# Altium schematic symbol library AD9746.SchLib: 1 symbol
Pins are listed as number, name and electrical type; pins without a type are passive.

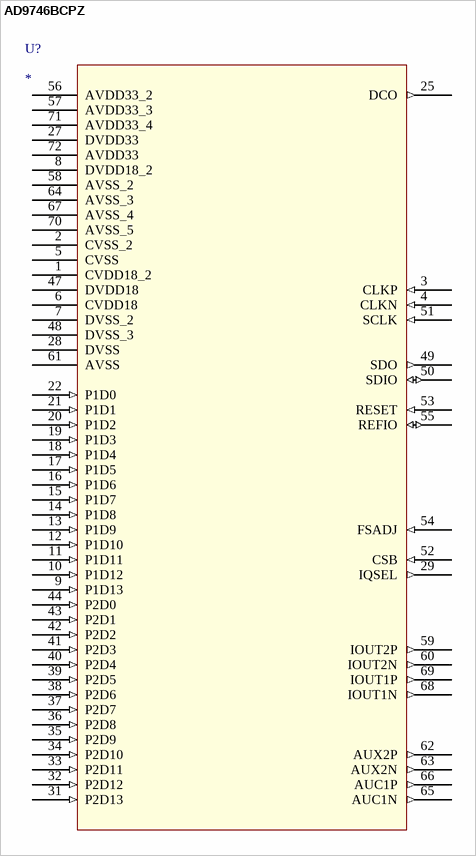
[diagram p0: symbol AD9746BCPZ]

## AD9746BCPZ
designator U?
Dual 14-Bit  250 MSPS Digital-to-Analog Converter; ComponentLink1URL: http://www.analog.com/static/imported-files/data_sheets/AD9741_9743_9745_9746_9747.pdf; ComponentLink1Description: Datasheet
footprint CP_72_1
pins: 1 CVDD18_2 (power) "Clock Supply Voltage (1.8 V)", 2 CVSS_2 (power) "Clock Supply Common (0 V)", 3 CLKP (in) "Differential DAC Clock Input", 4 CLKN (in) "Complementary Differential DAC Clock Input", 5 CVSS (power) "Clock Supply Common (0 V)", 6 CVDD18 (power) "Clock Supply Voltage (1.8 V)", 7 DVSS_2 (power) "Digital Supply Common (0 V)", 8 DVDD18_2 (power) "Digital Core Supply Voltage (1.8 V)", 9 P1D13 (in) "Port 1 Data Bit Inputs", 10 P1D12 (in) "Port 1 Data Bit Inputs", 11 P1D11 (in) "Port 1 Data Bit Inputs", 12 P1D10 (in) "Port 1 Data Bit Inputs", 13 P1D9 (in) "Port 1 Data Bit Inputs", 14 P1D8 (in) "Port 1 Data Bit Inputs", 15 P1D7 (in) "Port 1 Data Bit Inputs", 16 P1D6 (in) "Port 1 Data Bit Inputs", 17 P1D5 (in) "Port 1 Data Bit Inputs", 18 P1D4 (in) "Port 1 Data Bit Inputs", 19 P1D3 (in) "Port 1 Data Bit Inputs", 20 P1D2 (in) "Port 1 Data Bit Inputs", 21 P1D1 (in) "Port 1 Data Bit Inputs", 22 P1D0 (in) "Port 1 Data Bit Inputs", 23 NC_6 hidden, 24 NC_4 hidden, 25 DCO (out) "Data Clock Output. Use to clock data source", 26 NC_3 hidden, 27 DVDD33 (power) "Digital I/O Supply Voltage (3.3 V)", 28 DVSS (power) "Digital Supply Common (0 V)", 29 IQSEL (out) "I/Q Framing Signal for Single-Port Mode Operation", 30 NC_2 hidden, 31 P2D13 (in) "Port 2 Data Bit Inputs", 32 P2D12 (in) "Port 2 Data Bit Inputs", 33 P2D11 (in) "Port 2 Data Bit Inputs", 34 P2D10 (in) "Port 2 Data Bit Inputs", 35 P2D9 (in) "Port 2 Data Bit Inputs", 36 P2D8 (in) "Port 2 Data Bit Inputs", 37 P2D7 (in) "Port 2 Data Bit Inputs", 38 P2D6 (in) "Port 2 Data Bit Inputs", 39 P2D5 (in) "Port 2 Data Bit Inputs", 40 P2D4 (in) "Port 2 Data Bit Inputs", 41 P2D3 (in) "Port 2 Data Bit Inputs", 42 P2D2 (in) "Port 2 Data Bit Inputs", 43 P2D1 (in) "Port 2 Data Bit Inputs", 44 P2D0 (in) "Port 2 Data Bit Inputs", 45 NC_7 hidden, 46 NC_5 hidden, 47 DVDD18 (power) "Digital Core Supply Voltage (1.8 V)", 48 DVSS_3 (power) "Digital Supply Common (0 V)", 49 SDO (out) "Serial Peripheral Interface Data Output", 50 SDIO (io) "Serial Peripheral Interface Data Input and Optional Data Output", 51 SCLK (in) "Serial Peripheral Interface Clock Input", 52 CSB (in) "Serial Peripheral Interface Chip Select Input. Active low", 53 RESET (in) "Hardware Reset. Active high", 54 FSADJ (in) "Full-Scale Current Output Adjust. Connect a 10 kO resistor to AVSS", 55 REFIO (io) "Reference Input/Output. Connect a 0.1 µF capacitor to AVSS", 56 AVDD33_2 (power) "Analog Supply Voltage (3.3 V)", 57 AVDD33_3 (power) "Analog Supply Voltage (3.3 V)", 58 AVSS_2 (power) "Analog Supply Common (0 V)", 59 IOUT2P (out) "DAC2 Current Output True. Sources full-scale current when input data bits are all 1.", 60 IOUT2N (out) "DAC2 Current Output Complement. Sources full-scale current when data bits are all 0", 61 AVSS (power) "Analog Supply Common (0 V)", 62 AUX2P (out) "Auxiliary DAC2 Default Current Output Pin", 63 AUX2N (out) "Auxiliary DAC2 Optional Output Pin. Enable through SPI", 64 AVSS_3 (power) "Analog Supply Common (0 V)", 65 AUC1N (out) "Auxiliary DAC1 Optional Output Pin. Enable through SPI", 66 AUC1P (out) "Auxiliary DAC1 Default Current Output Pin", 67 AVSS_4 (power) "Analog Supply Common (0 V)", 68 IOUT1N (out) "Complementary DAC1 Current Output. Sources full-scale current when data bits are all 0.", 69 IOUT1P (out) "DAC1 Current Output. Sources full-scale current when data bits are all 1", 70 AVSS_5 (power) "Analog Supply Common (0 V)", 71 AVDD33_4 (power) "Analog Supply Voltage (3.3 V)", 72 AVDD33 (power) "Analog Supply Voltage (3.3 V)", 73 EP hidden "Exposed Thermal Pad. Must be soldered to copper pour on top surface of PCB for mechanical stability and must be electrically tied to low impedance GND plane for low noise performance"